# EAGLE library part L203011MS02Q (library connectors-custom)
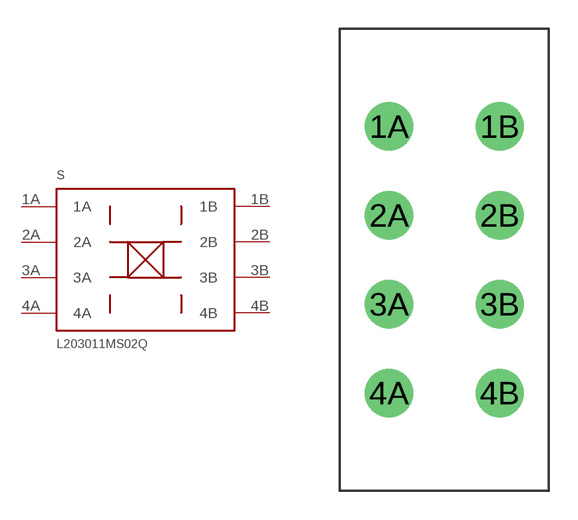
[diagram p0: symbol with the pads of L203011MS02Q; footprint L203011MS02Q]

Designator prefix S

## L203011MS02Q  [L203011MS02Q]
1A  1A  pas
1B  1B  pas
2A  2A  pas
2B  2B  pas
3A  3A  pas
3B  3B  pas
4A  4A  pas
4B  4B  pas

## Footprint L203011MS02Q (pad centres in mm)
drill 1.65 pad 2.5: 1A -2.86,6.9; 1B 2.86,6.9; 2A -2.86,2.3; 2B 2.86,2.3; 3A -2.86,-2.3; 3B 2.86,-2.3; 4A -2.86,-6.9; 4B 2.86,-6.9